# EAGLE library part *4001 (library digital)
xx4001: Quad 2-input NOR gate
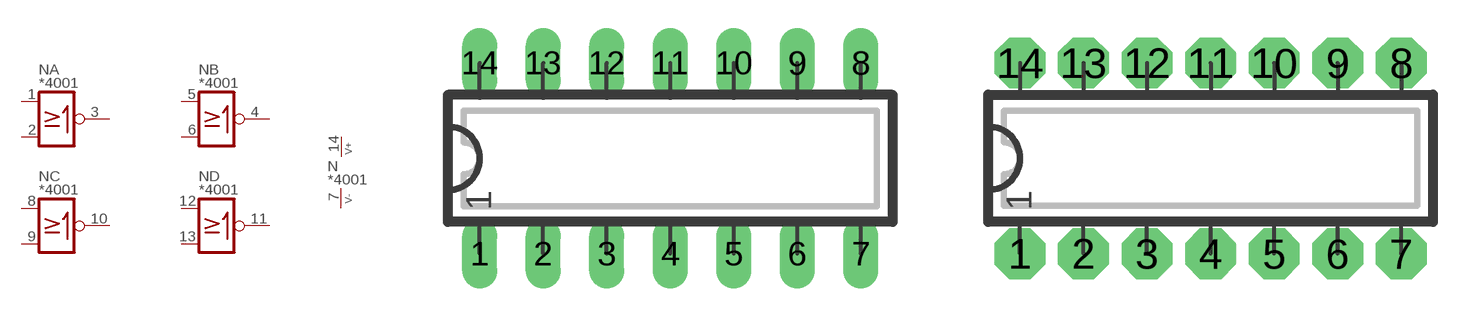
[diagram p41: symbol with the pads of DIP14L; footprints DIP14L, DIP14N]

Designator prefix N; gates A=NOR2 B=NOR2 C=NOR2 D=NOR2 P=V+-

## 4001  [DIP14L]
1  A:I1  in
2  A:I2  in
3  A:O  out
4  B:O  out
5  B:I1  in
6  B:I2  in
7  P:V-  pwr
8  C:I1  in
9  C:I2  in
10  C:O  out
11  D:O  out
12  D:I1  in
13  D:I2  in
14  P:V+  pwr

## 4001L  [DIP14L]
Pads as for DIP14L

## 4001N  [DIP14N]
Pads as for DIP14L

## 4001R  [DIP14R]
Pads as for DIP14L

## Footprint DIP14L (pad centres in mm)
DIP-14, long pads Standard IC package, 14 pins
drill 0.813 pad 1.397 long: 1 0,0; 2 2.54,0; 3 5.08,0; 4 7.62,0; 5 10.16,0; 6 12.7,0; 7 15.24,0; 8 15.24,7.62; 9 12.7,7.62; 10 10.16,7.62; 11 7.62,7.62; 12 5.08,7.62; 13 2.54,7.62; 14 0,7.62

## Footprint DIP14N (pad centres in mm)
DIP-14 Standard IC package, 14 pins
drill 0.813 pad 2.032 octagon: 1 0,0; 2 2.54,0; 3 5.08,0; 4 7.62,0; 5 10.16,0; 6 12.7,0; 7 15.24,0; 8 15.24,7.62; 9 12.7,7.62; 10 10.16,7.62; 11 7.62,7.62; 12 5.08,7.62; 13 2.54,7.62; 14 0,7.62

## Footprint DIP14R (pad centres in mm)
DIP-14, reduced pads Standard IC package, 14 pins
drill 0.813 pad 1.397 square: 1 0,0; 2 2.54,0; 3 5.08,0; 4 7.62,0; 5 10.16,0; 6 12.7,0; 7 15.24,0; 8 15.24,7.62; 9 12.7,7.62; 10 10.16,7.62; 11 7.62,7.62; 12 5.08,7.62; 13 2.54,7.62; 14 0,7.62